# Altium footprint library c2020.PcbLib: 8 footprints
Each footprint in its own frame and in the unit in brackets; x right, y up, seen from the top. Pads: shape width x height; smd on the part's side, far side on the other; paste and mask are expansions set on the pad; w line width, h text height; cw(c..) or ccw(c..) is an arc to the next point about the centre after c.
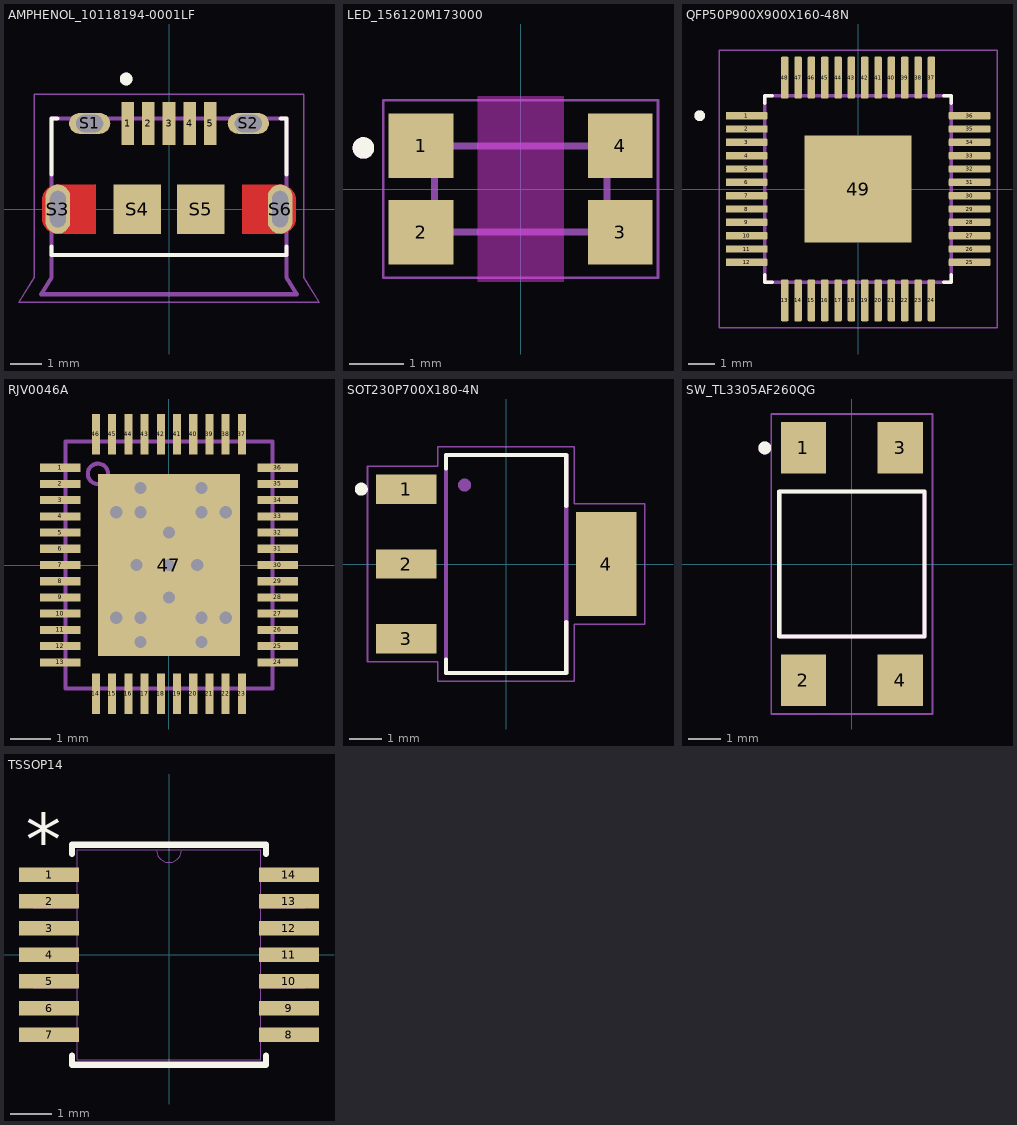
[diagram p0: the footprints below, top view; thin cyan lines are the x and y axes]

## AMPHENOL_10118194-0001LF [mm]
pads (11):
  rect 0.4x1.35 smd: 1(-1.3,2.7) 2(-0.65,2.7) 3(0,2.7) 4(0.65,2.7) 5(1.3,2.7)
  oval 1.3x0.65 hole 0.55 slot 0.85 at 0 deg: S1(-2.5,2.7) S2(2.5,2.7)
  oval 0.775x1.55 hole 0.5 slot 1.15 at 90 deg: S3(-3.5,0) S6(3.5,0)
  rect 1.5x1.55 smd: S4(-1,0) S5(1,0)
Top Layer:
  region: 192 vertices and 0 holes, not listed, extent -4,-0.775 -2.3,0.78
  region: 192 vertices and 0 holes, not listed, extent 2.3,-0.78 4,0.775
Top Overlay:
  circle w0.2: c-1.35,4.1 r0.1
  lines w0.127: -3.7,-1.18 -3.7,-1.45 3.7,-1.45 3.7,-1.18 ; -3.7,1.095 -3.7,2.85 -3.52,2.85 ; 3.52,2.85 3.7,2.85 3.7,1.095
Top Paste:
  drawing of 6 lines, arcs and shapes, not listed
Top Solder:
  region: -2.2,-0.875 -3.6,-0.875 -3.626,-0.874 -3.652,-0.872 -3.678,-0.869 -3.704,-0.864 -3.729,-0.858 -3.755,-0.851 -3.779,-0.842 -3.803,-0.832 -3.827,-0.821 -3.85,-0.808 -3.872,-0.794 -3.894,-0.78 -3.915,-0.764 -3.935,-0.747 -3.954,-0.729 -3.972,-0.71 -3.989,-0.69 -4.005,-0.669 -4.019,-0.647 -4.033,-0.625 -4.046,-0.602 -4.057,-0.578 -4.067,-0.554 -4.076,-0.53 -4.083,-0.504 -4.089,-0.479 -4.094,-0.453 -4.097,-0.427 -4.099,-0.401 -4.1,-0.375 -4.1,0.375 -4.099,0.401 -4.097,0.427 -4.094,0.453 -4.089,0.479 -4.083,0.504 -4.076,0.53 -4.067,0.554 -4.057,0.578 -4.046,0.602 -4.033,0.625 -4.019,0.647 -4.005,0.669 -3.989,0.69 -3.972,0.71 -3.954,0.729 -3.935,0.747 -3.915,0.764 -3.894,0.78 -3.872,0.794 -3.85,0.808 -3.827,0.821 -3.803,0.832 -3.779,0.842 -3.755,0.851 -3.729,0.858 -3.704,0.864 -3.678,0.869 -3.652,0.872 -3.626,0.874 -3.6,0.875 -2.2,0.875
  region: 3.626,0.874 3.652,0.872 3.678,0.869 3.704,0.864 3.729,0.858 3.755,0.851 3.779,0.842 3.803,0.832 3.827,0.821 3.85,0.808 3.872,0.794 3.894,0.78 3.915,0.764 3.935,0.747 3.954,0.729 3.972,0.71 3.989,0.69 4.005,0.669 4.019,0.647 4.033,0.625 4.046,0.602 4.057,0.578 4.067,0.554 4.076,0.53 4.083,0.504 4.089,0.479 4.094,0.453 4.097,0.427 4.099,0.401 4.1,0.375 4.1,-0.375 4.099,-0.401 4.097,-0.427 4.094,-0.453 4.089,-0.479 4.083,-0.504 4.076,-0.53 4.067,-0.554 4.057,-0.578 4.046,-0.602 4.033,-0.625 4.019,-0.647 4.005,-0.669 3.989,-0.69 3.972,-0.71 3.954,-0.729 3.935,-0.747 3.915,-0.764 3.894,-0.78 3.872,-0.794 3.85,-0.808 3.827,-0.821 3.803,-0.832 3.779,-0.842 3.755,-0.851 3.729,-0.858 3.704,-0.864 3.678,-0.869 3.652,-0.872 3.626,-0.874 3.6,-0.875 2.2,-0.875 2.2,0.875 3.6,0.875
Mechanical 13:
  circle w0.2: c-1.35,4.1 r0.1
  lines w0.127: -3.7,-1.45 3.7,-1.45 ; -3.7,-1.45 -3.7,2.85 3.7,2.85 3.7,-1.45 ; -3.7,-1.45 -3.7,-2.15 -4.025,-2.68 4.025,-2.68 3.7,-2.15 3.7,-1.45
  text "PCB END" at -1.95,-2.1 h0.5
Mechanical 15:
  lines w0.05: -4.725,-2.93 4.725,-2.93 4.25,-2.15 4.25,3.625 -4.25,3.625 -4.25,-2.15 -4.725,-2.93

## LED_156120M173000 [mm]
pads (4):
  rect 1.2x1.2 smd: 1(-1.85,0.8) 2(-1.85,-0.8) 3(1.85,-0.8) 4(1.85,0.8)
Top Overlay:
  circle w0.2: c-2.921,0.762 r0.1
Keep-Out Layer:
  board cut-out: -0.8,1.725 0.8,1.725 0.8,-1.725 -0.8,-1.725
Mechanical 13:
  circle w0.2: c-2.921,0.762 r0.1
  lines w0.127: -1.6,-0.8 1.6,-0.8 1.6,0.8 -1.6,0.8 -1.6,-0.8
Mechanical 15:
  lines w0.05: -2.55,-1.65 2.55,-1.65 2.55,1.65 -2.55,1.65 -2.55,-1.65

## PCBComponent_1 [mm]

## QFP50P900X900X160-48N [mm]
pads (49):
  rrect25% 1.56x0.28 smd: 1(-4.18,2.75) 2(-4.18,2.25) 3(-4.18,1.75) 4(-4.18,1.25) 5(-4.18,0.75) 6(-4.18,0.25) 7(-4.18,-0.25) 8(-4.18,-0.75) 9(-4.18,-1.25) 10(-4.18,-1.75) 11(-4.18,-2.25) 12(-4.18,-2.75) 25(4.18,-2.75) 26(4.18,-2.25) 27(4.18,-1.75) 28(4.18,-1.25) 29(4.18,-0.75) 30(4.18,-0.25) 31(4.18,0.25) 32(4.18,0.75) 33(4.18,1.25) 34(4.18,1.75) 35(4.18,2.25) 36(4.18,2.75)
  rrect25% 0.28x1.56 smd: 13(-2.75,-4.18) 14(-2.25,-4.18) 15(-1.75,-4.18) 16(-1.25,-4.18) 17(-0.75,-4.18) 18(-0.25,-4.18) 19(0.25,-4.18) 20(0.75,-4.18) 21(1.25,-4.18) 22(1.75,-4.18) 23(2.25,-4.18) 24(2.75,-4.18) 37(2.75,4.18) 38(2.25,4.18) 39(1.75,4.18) 40(1.25,4.18) 41(0.75,4.18) 42(0.25,4.18) 43(-0.25,4.18) 44(-0.75,4.18) 45(-1.25,4.18) 46(-1.75,4.18) 47(-2.25,4.18) 48(-2.75,4.18)
  rect 4x4 smd: 49(0,0)
Top Overlay:
  circle w0.2: c-5.94,2.75 r0.1
  lines w0.127: -3.5,-3.21 -3.5,-3.5 -3.21,-3.5 ; -3.5,3.21 -3.5,3.5 -3.21,3.5 ; 3.21,-3.5 3.5,-3.5 3.5,-3.21 ; 3.21,3.5 3.5,3.5 3.5,3.21
Mechanical 13:
  circle w0.2: c-5.94,2.75 r0.1
  lines w0.127: -3.5,-3.5 3.5,-3.5 3.5,3.5 -3.5,3.5 -3.5,-3.5
Mechanical 15:
  lines w0.05: -5.21,-5.21 5.21,-5.21 5.21,5.21 -5.21,5.21 -5.21,-5.21
3D body "step_temp.STEP": height 1.6, standoff 0, extent -4.5,-4.5 4.5,4.5

## RJV0046A [mm]
pads (47):
  rect 1x0.2 smd paste+0 mask+0: 1(-2.675,2.4) 2(-2.675,2) 3(-2.675,1.6) 4(-2.675,1.2) 5(-2.675,0.8) 6(-2.675,0.4) 7(-2.675,0) 8(-2.675,-0.4) 9(-2.675,-0.8) 10(-2.675,-1.2) 11(-2.675,-1.6) 12(-2.675,-2) 13(-2.675,-2.4) 24(2.679,-2.4) 25(2.679,-2) 26(2.679,-1.6) 27(2.679,-1.2) 28(2.679,-0.8) 29(2.679,-0.4) 30(2.679,0) 31(2.679,0.4) 32(2.679,0.8) 33(2.679,1.2) 34(2.679,1.6) 35(2.679,2) 36(2.679,2.4)
  rect 0.2x1 smd paste+0 mask+0: 14(-1.8,-3.175) 15(-1.4,-3.175) 16(-1,-3.175) 17(-0.6,-3.175) 18(-0.2,-3.175) 19(0.2,-3.175) 20(0.6,-3.175) 21(1,-3.175) 22(1.4,-3.175) 23(1.8,-3.175) 37(1.8,3.225) 38(1.4,3.225) 39(1,3.225) 40(0.6,3.225) 41(0.2,3.225) 42(-0.2,3.225) 43(-0.6,3.225) 44(-1,3.225) 45(-1.4,3.225) 46(-1.8,3.225)
  rect 3.5x4.5 smd paste-2.237 mask+0: 47(0,0)
via 0.8,1.9 diameter 0.45 hole 0.3
via 0.8,1.3 diameter 0.45 hole 0.3
via 1.4,1.3 diameter 0.45 hole 0.3
via -0.7,1.9 diameter 0.45 hole 0.3
via -0.7,1.3 diameter 0.45 hole 0.3
via -1.3,1.3 diameter 0.45 hole 0.3
via -0.7,-1.9 diameter 0.45 hole 0.3
via -0.7,-1.3 diameter 0.45 hole 0.3
via -1.3,-1.3 diameter 0.45 hole 0.3
via 0.8,-1.3 diameter 0.45 hole 0.3
via 1.4,-1.3 diameter 0.45 hole 0.3
via 0.8,-1.9 diameter 0.45 hole 0.3
via 0,0 diameter 0.45 hole 0.3
via 0,0.8 diameter 0.45 hole 0.3
via 0.7,0 diameter 0.45 hole 0.3
via -0.8,0 diameter 0.45 hole 0.3
via 0,-0.8 diameter 0.45 hole 0.3
Top Paste:
  drawing of 12 lines, arcs and shapes, not listed
Mechanical 13:
  circle w0.1: c-1.75,2.25 r0.25
  lines w0.1: -2.55,-3.05 2.55,-3.05 2.55,3.05 -2.55,3.05 -2.55,-3.05
3D body "RJV0046A.stp": height 1, standoff 0, extent -2.5,-3 2.5,3
3D body: height 0.25, standoff 0, extent 0,0 0.254,0.254

## SOT230P700X180-4N [mm]
pads (4):
  rect 1.86x0.9 smd: 1(-3.075,2.3) 2(-3.075,0) 3(-3.075,-2.3)
  rect 1.86x3.19 smd: 4(3.075,0)
Top Overlay:
  circle w0.2: c-4.452,2.3 r0.1
  lines w0.127: -1.85,-2.933 -1.85,-3.35 1.85,-3.35 1.85,-1.779 ; -1.85,2.933 -1.85,3.35 1.85,3.35 1.85,1.779
Mechanical 13:
  circle w0.2: c-1.277,2.427 r0.1
  lines w0.127: -1.85,-3.35 1.85,-3.35 1.85,3.35 -1.85,3.35 -1.85,-3.35
Mechanical 15:
  lines w0.05: -4.26,-3 -2.1,-3 -2.1,-3.6 2.1,-3.6 2.1,-1.85 4.26,-1.85 4.26,1.85 2.1,1.85 2.1,3.6 -2.1,3.6 -2.1,3 -4.26,3 -4.26,-3
3D body "SOT-223.STEP": height 1.7, standoff 0.02, extent -3.48,-3.25 3.48,3.25

## SW_TL3305AF260QG [mm]
pads (4):
  rect 1.4x1.6 smd: 1(-1.5,3.6) 2(-1.5,-3.6) 3(1.5,3.6) 4(1.5,-3.6)
Top Overlay:
  circle w0.2: c-2.7,3.6 r0.1
  lines w0.127: -2.25,-2.25 -2.25,2.25 2.25,2.25 2.25,-2.25 -2.25,-2.25
Mechanical 13:
  circle w0.2: c-2.7,3.6 r0.1
  lines w0.127: -2.25,-2.25 -2.25,2.25 2.25,2.25 2.25,-2.25 -2.25,-2.25
Mechanical 15:
  lines w0.05: -2.5,-4.65 -2.5,4.65 2.5,4.65 2.5,-4.65 -2.5,-4.65
3D body "TL3305AFxxxxG.stp": height 3.7, standoff -0.1, extent -2.25,-3.65 2.25,3.85

## TSSOP14 [mil]
pads (14):
  rect 57.56x13.97 smd paste+0 mask+0: 1(-115,76.8) 2(-115,51.2) 3(-115,25.6) 4(-115,0) 5(-115,-25.6) 6(-115,-51.2) 7(-115,-76.8) 8(115,-76.8) 9(115,-51.2) 10(115,-25.6) 11(115,0) 12(115,25.6) 13(115,51.2) 14(115,76.8)
Top Overlay:
  lines w6: -93,-96.88 -93,-105.5 93,-105.5 93,-96.88 ; -93,96.88 -93,105.5 93,105.5 93,96.88
  text "*" at -137.5,85.77 h50
Mechanical 13:
  lines w0: -12,100.5 ccw(c0,100.5) 12,100.5
  lines w1: -130,-82.8 -130,-70.8 -88,-70.8 -88,-82.8 -130,-82.8 ; -130,-57.2 -130,-45.2 -88,-45.2 -88,-57.2 -130,-57.2 ; -130,-31.6 -130,-19.6 -88,-19.6 -88,-31.6 -130,-31.6 ; -130,-6 -130,6 -88,6 -88,-6 -130,-6 ; -130,19.6 -130,31.6 -88,31.6 -88,19.6 -130,19.6 ; -130,45.2 -130,57.2 -88,57.2 -88,45.2 -130,45.2 ; -130,70.8 -130,82.8 -88,82.8 -88,70.8 -130,70.8 ; -88,-100.5 88,-100.5 88,100.5 -88,100.5 -88,-100.5 ; 88,-82.8 88,-70.8 130,-70.8 130,-82.8 88,-82.8 ; 88,-57.2 88,-45.2 130,-45.2 130,-57.2 88,-57.2 ; 88,-31.6 88,-19.6 130,-19.6 130,-31.6 88,-31.6 ; 88,-6 88,6 130,6 130,-6 88,-6 ; 88,19.6 88,31.6 130,31.6 130,19.6 88,19.6 ; 88,45.2 88,57.2 130,57.2 130,45.2 88,45.2 ; 88,70.8 88,82.8 130,82.8 130,70.8 88,70.8
  text "*" at -85.5,47.5 h50
3D body "TSSOP14.step": height 47.09, standoff 0, extent -129.99,-100.51 130.01,100.52